# EAGLE library part OPAMP:LM6152(DUAL,RRIO) (library QuantumOptics)
LM6152, National Semi opamp, dual, single supply, RRIO, middle of the road.
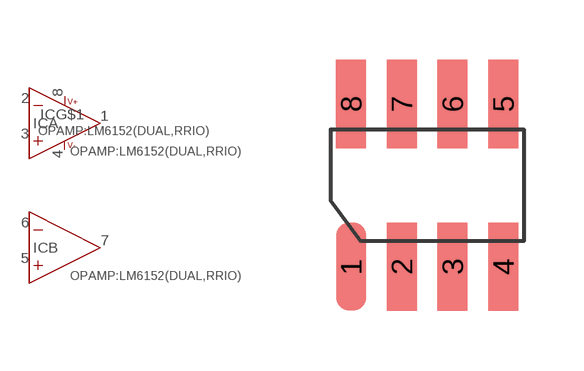
[diagram p21: symbol with the pads of SOIC-8; footprint SOIC-8]

Designator prefix IC; gates A=OPAMP B=OPAMP G$1=PWR+-

## OPAMP:LM6152(DUAL,RRIO)ACM  [SOIC-8]
1  A:OUT  out
2  A:-IN  in
3  A:+IN  in
4  G$1:V-
5  B:+IN  in
6  B:-IN  in
7  B:OUT  out
8  G$1:V++

## Footprint SOIC-8 (pad centres in mm)
SOIC-8 (AKA SO-8), pads on 0.050" grid.
smd 0.75 x 2.2: 1 -1.905,-2.032; 2 -0.635,-2.032; 3 0.635,-2.032; 4 1.905,-2.032; 5 1.905,2.032; 6 0.635,2.032; 7 -0.635,2.032; 8 -1.905,2.032